# EAGLE library part MAX236 (library 000001)
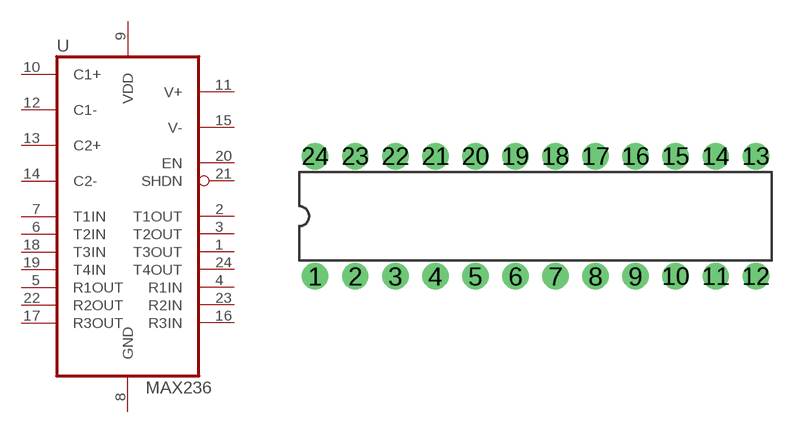
[diagram p18: symbol with the pads of DIL24-3; footprint DIL24-3]

Designator prefix -

## MAX236  [DIL24-3]
1  T3OUT  out
2  T1OUT  out
3  T2OUT  out
4  R1IN  in
5  R1OUT  out
6  T2IN  in
7  T1IN  in
8  GND  pwr
9  VDD  pwr
10  C1+
11  V+
12  C1-
13  C2+
14  C2-
15  V-
16  R3IN  in
17  R3OUT  out
18  T3IN  in
19  T4IN  in
20  EN  in
21  SHDN  in
22  R2OUT  out
23  R2IN  in
24  T4OUT  out

## Footprint DIL24-3 (pad centres in mm)
Dual In Line Package 0.3 inch
drill 0.5 pad 1.676 round: 1 -13.97,-3.81; 2 -11.43,-3.81; 3 -8.89,-3.81; 4 -6.35,-3.81; 5 -3.81,-3.81; 6 -1.27,-3.81; 7 1.27,-3.81; 8 3.81,-3.81; 9 6.35,-3.81; 10 8.89,-3.81; 11 11.43,-3.81; 12 13.97,-3.81; 13 13.97,3.81; 14 11.43,3.81; 15 8.89,3.81; 16 6.35,3.81; 17 3.81,3.81; 18 1.27,3.81; 19 -1.27,3.81; 20 -3.81,3.81; 21 -6.35,3.81; 22 -8.89,3.81; 23 -11.43,3.81; 24 -13.97,3.81